# EAGLE library part TERMINAL_2X_RELAY (library captain-slow)
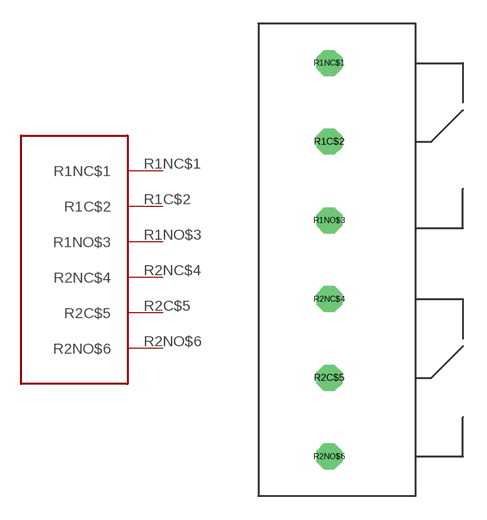
[diagram p4: symbol with the pads of TERMINAL_2X_RELAY; footprint TERMINAL_2X_RELAY]

Designator prefix -

## TERMINAL_2X_RELAY  [TERMINAL_2X_RELAY]
R1C$2  R1C$2
R1NC$1  R1NC$1
R1NO$3  R1NO$3
R2C$5  R2C$5
R2NC$4  R2NC$4
R2NO$6  R2NO$6

## Footprint TERMINAL_2X_RELAY (pad centres in mm)
drill 1.1 octagon: R1C$2 0,7.5; R1NC$1 0,12.5; R1NO$3 0,2.5; R2C$5 0,-7.5; R2NC$4 0,-2.5; R2NO$6 0,-12.5